# EAGLE library part FREETRONICS-MASTER-V1_RGBLED (library LeoStick)
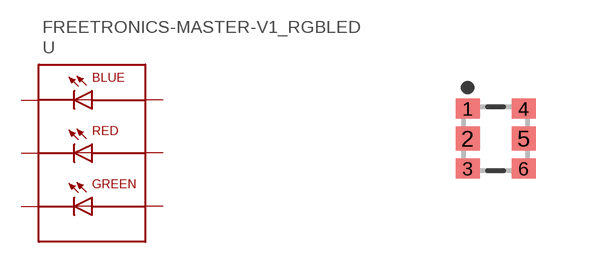
[diagram p2: symbol with the pads of FREETRONICS-MASTER-V1_19-337; footprint FREETRONICS-MASTER-V1_19-337]

Designator prefix -

## FREETRONICS-MASTER-V1_RGBLEDSMT  [FREETRONICS-MASTER-V1_19-337]
1  C-B  pas
2  C-R  pas
3  C-G  pas
4  A-B  pas
5  A-R  pas
6  A-G  pas

## Footprint FREETRONICS-MASTER-V1_19-337 (pad centres in mm)
smd 0.6 x 0.5: 1 -0.7,0.75; 3 -0.7,-0.75; 4 0.7,0.75; 6 0.7,-0.75
smd 0.6 x 0.6: 2 -0.7,0; 5 0.7,0